# EAGLE library part AD5676ARUZ (library AD5676ARUZ)
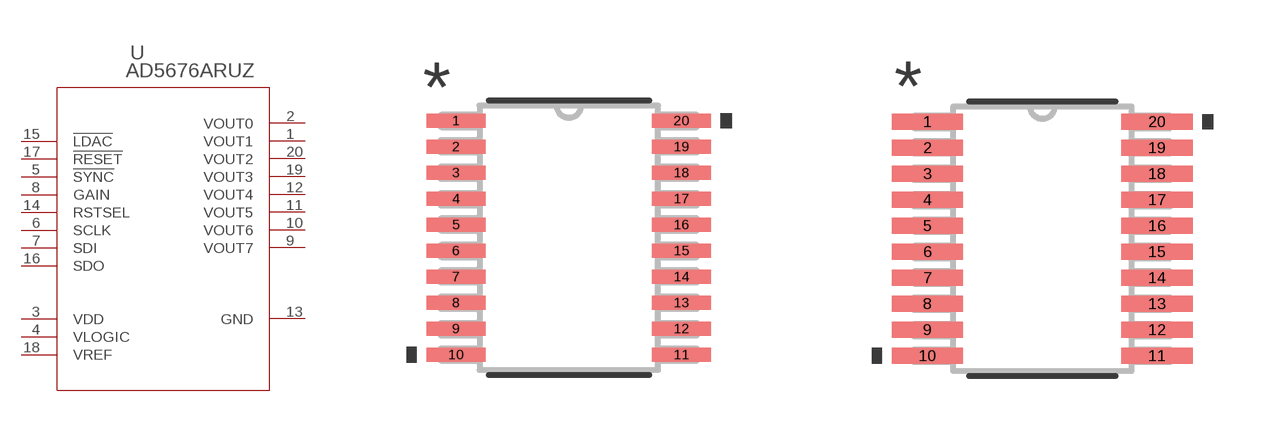
[diagram p0: symbol with the pads of RU_20; footprints RU_20, RU_20-M]

Designator prefix U

## AD5676ARUZ  [RU_20]
1  VOUT1  pas
2  VOUT0  pas
3  VDD  pas
4  VLOGIC  pas
5  !SYNC  pas
6  SCLK  pas
7  SDI  pas
8  GAIN  pas
9  VOUT7  pas
10  VOUT6  pas
11  VOUT5  pas
12  VOUT4  pas
13  GND  pas
14  RSTSEL  pas
15  !LDAC  pas
16  SDO  pas
17  !RESET  pas
18  VREF  pas
19  VOUT3  pas
20  VOUT2  pas

## AD5676ARUZRU_20-M  [RU_20-M]
Pads as for RU_20

## AD5676ARUZRU_20-L  [RU_20-L]
Pads as for RU_20

## Footprint RU_20 (pad centres in mm)
smd 1.473 x 0.356: 1 -2.819,2.925; 2 -2.819,2.275; 3 -2.819,1.625; 4 -2.819,0.975; 5 -2.819,0.325; 6 -2.819,-0.325; 7 -2.819,-0.975; 8 -2.819,-1.625; 9 -2.819,-2.275; 10 -2.819,-2.925; 11 2.819,-2.925; 12 2.819,-2.275; 13 2.819,-1.625; 14 2.819,-0.975; 15 2.819,-0.325; 16 2.819,0.325; 17 2.819,0.975; 18 2.819,1.625; 19 2.819,2.275; 20 2.819,2.925

## Footprint RU_20-M (pad centres in mm)
smd 1.778 x 0.406: 1 -2.87,2.925; 2 -2.87,2.275; 3 -2.87,1.625; 4 -2.87,0.975; 5 -2.87,0.325; 6 -2.87,-0.325; 7 -2.87,-0.975; 8 -2.87,-1.625; 9 -2.87,-2.275; 10 -2.87,-2.925; 11 2.87,-2.925; 12 2.87,-2.275; 13 2.87,-1.625; 14 2.87,-0.975; 15 2.87,-0.325; 16 2.87,0.325; 17 2.87,0.975; 18 2.87,1.625; 19 2.87,2.275; 20 2.87,2.925

## Footprint RU_20-L (pad centres in mm)
smd 1.168 x 0.305: 1 -2.769,2.925; 2 -2.769,2.275; 3 -2.769,1.625; 4 -2.769,0.975; 5 -2.769,0.325; 6 -2.769,-0.325; 7 -2.769,-0.975; 8 -2.769,-1.625; 9 -2.769,-2.275; 10 -2.769,-2.925; 11 2.769,-2.925; 12 2.769,-2.275; 13 2.769,-1.625; 14 2.769,-0.975; 15 2.769,-0.325; 16 2.769,0.325; 17 2.769,0.975; 18 2.769,1.625; 19 2.769,2.275; 20 2.769,2.925